# EAGLE library part WE-RJ45-LAN-10/100BASE-T-THT74990111211 (library Wurth_Elektronik_Passive_rev16c)
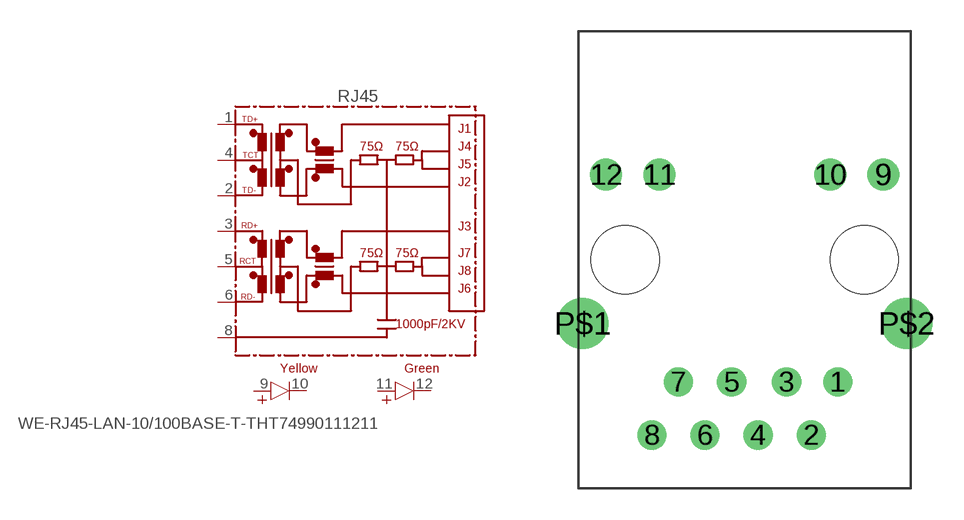
[diagram p178: symbol with the pads of 74990111211; footprint 74990111211]

Designator prefix RJ45

## WE-RJ45-LAN-10/100BASE-T-THT74990111211  [74990111211]
1  1
2  2
3  3
4  4
5  5
6  6
8  8
9  9
10  10
11  11
12  12

## Footprint 74990111211 (pad centres in mm)
drill 0.89: 1 4.45,-5.84; 2 3.18,-8.38; 3 2,-5.84; 4 0.64,-8.38; 5 -0.63,-5.84; 6 -1.9,-8.38; 7 -3.17,-5.84; 8 -4.44,-8.38
drill 1.02: 9 6.625,4.08; 10 4.085,4.08; 11 -4.085,4.08; 12 -6.625,4.08
drill 1.63: P$1 -7.745,-3.05; P$2 7.745,-3.05
hole 3.25 at -5.715,0
hole 3.25 at 5.715,0